# Altium schematic symbol library RF Attenuator.SchLib: 1 symbol
Pins are listed as number, name and electrical type; pins without a type are passive.

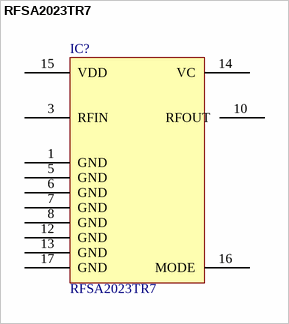
[diagram p0: symbol RFSA2023TR7]

## RFSA2023TR7
designator IC?
IC VOLTAGE CNTRLD ATTEN 16QFN; Manufacturer: RFMD; Impedance: 50 Ohm; Attenuation: 2.6dB ~ 32.6dB; Frequency Range: 50MHz ~ 6GHz; Part Number: RFSA2023TR7; PartId: 7866; Supplier 1: Digi-Key; Supplier Part Number 1: 689-1105-2-ND; ComponentLink1Description: Datasheet; ComponentLink1URL: http://www.rfmd.com/CS/Documents/RFSA2023DS.pdf; ComponentLink2Description: Digi-Key Listing; ComponentLink2URL: http://www.digikey.ca/product-detail/en/RFSA2023TR7/689-1105-2-ND/2787130; Price: 3.6677; Device Package: 16-VFQFN Exposed Pad; Tolerance: -; Power (Watts): -
footprint RFMD QFN-16 3x3mm
pins: 1 GND, 3 RFIN, 5 GND, 6 GND, 7 GND, 8 GND, 10 RFOUT, 12 GND, 13 GND, 14 VC, 15 VDD, 16 MODE, 17 GND